# Altium schematic symbol library Active Components.SchLib: 3 symbols
Pins are listed as number, name and electrical type; pins without a type are passive.

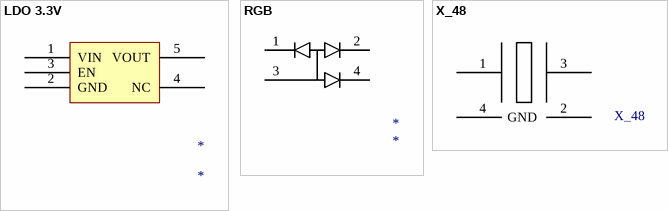
[diagram p0: symbols LDO 3.3V to X_48]

## LDO 3.3V
designator *
footprint SOT95P280X145-5N (SOT23, 5-Leads, Body 2,90x2,80mm, Pitch 0,95mm, IPC Medium Density)
pins: 1 VIN, 2 GND, 3 EN, 4 NC, 5 VOUT

## RGB
designator *
footprint RGB
pins: 1 RED, 2 GREEN, 3 ANODE, 4 BLUE

## X_48
designator X_48  (value not drawn)
footprint 48Mhz 2x1.6mm SMD
pins: 1, 2 GND, 3 2, 4 GND